# Altium integrated library IntegratedCircuit - Copy.IntLib: 190 symbols (part 1 of 3)
Pins are listed as number, name and electrical type; pins without a type are passive.

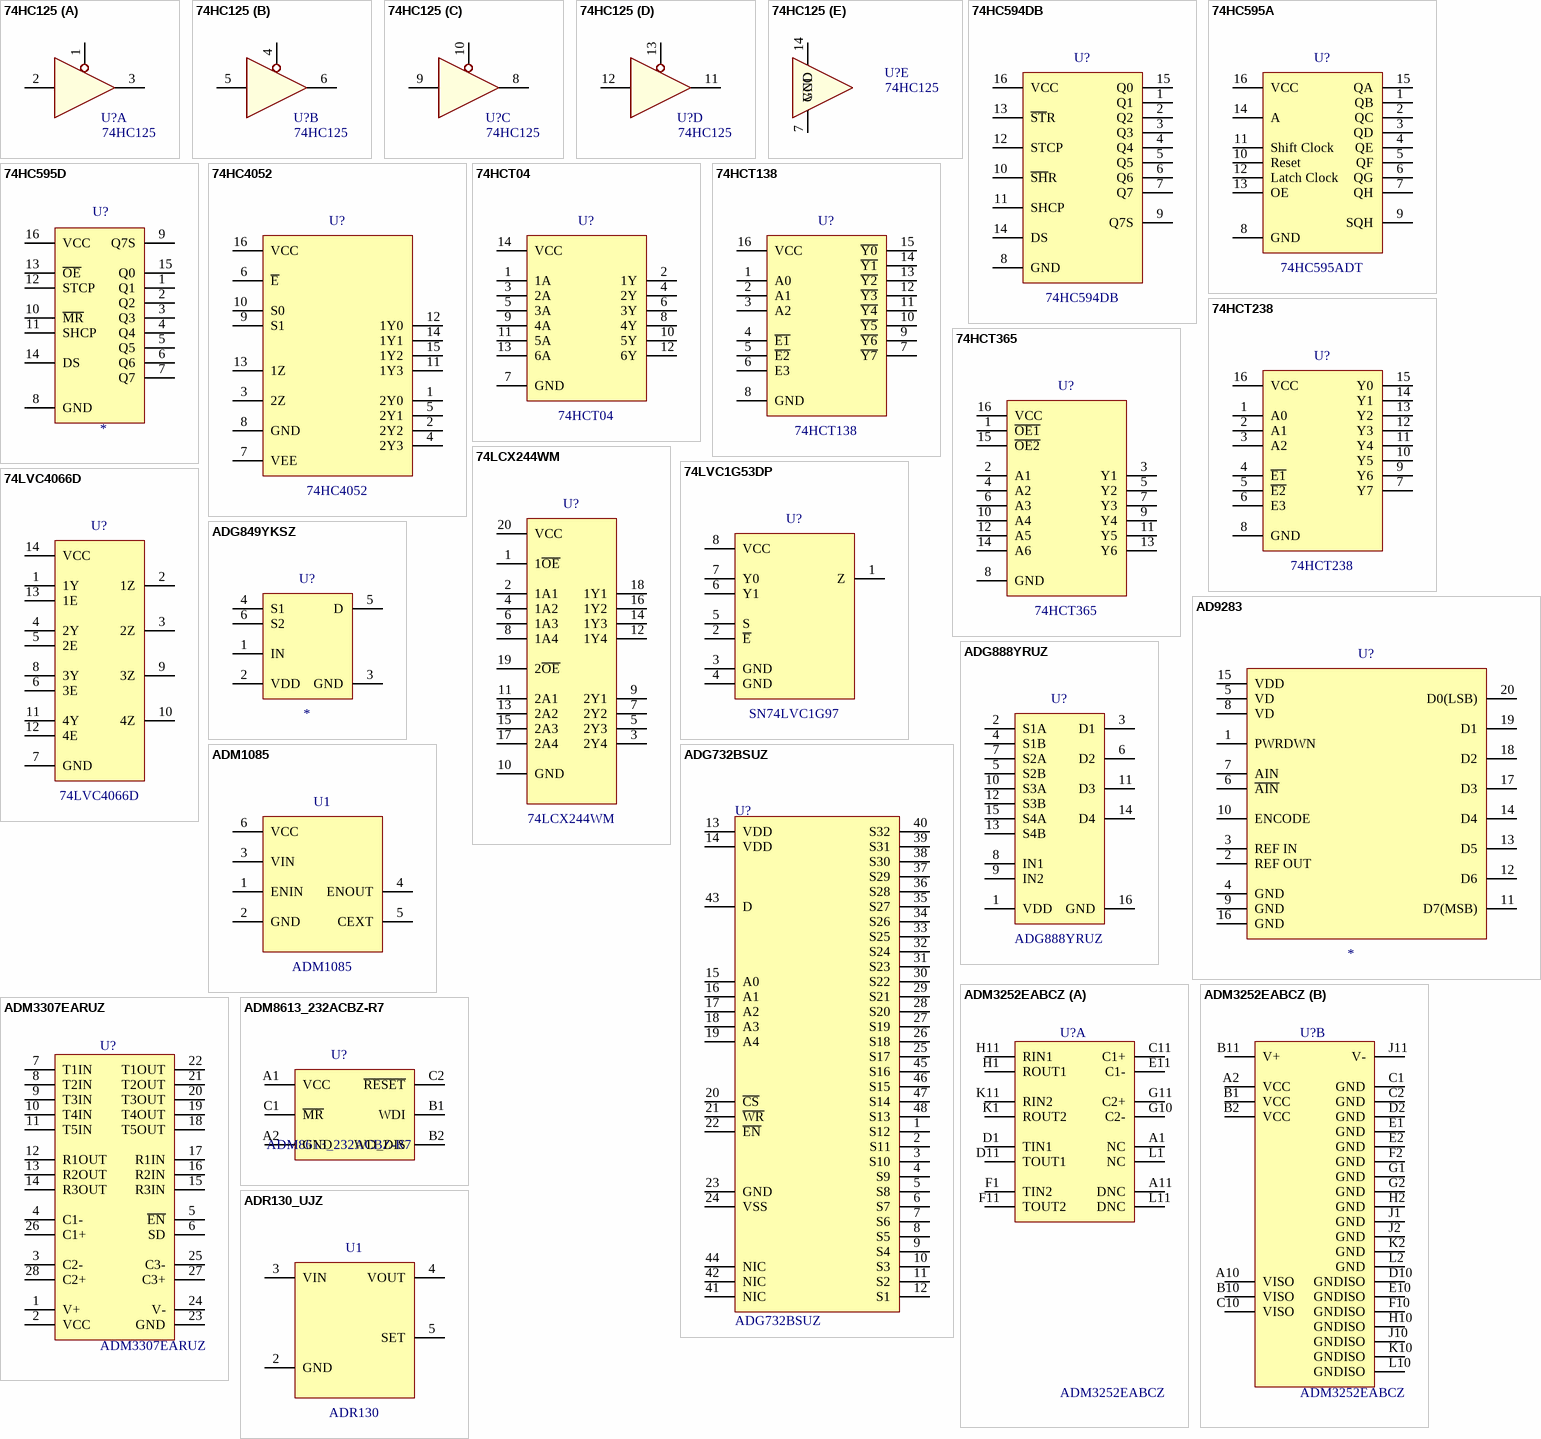
[diagram p0: symbols 74HC125 to ADR130_UJZ]

## 74HC125
designator U?
Quadruple Bus Buffer Gates With 3-State Outputs; Value: 74HC125
footprint SO14 P1.27 C4.0X8.8 H1.75 (SOIC, 14-Leads, Body 4.0X8.8mm, Pitch 1.27mm, IPC Medium Density)
part A pins: 1 ~{OE}1, 2 A1, 3 Y1
part B pins: 4 ~{OE}2, 5 A2, 6 Y2
part C pins: 8 Y3, 9 A3, 10 ~{OE}3
part D pins: 11 Y4, 12 A4, 13 ~{OE}3
part E pins: 7 GND, 14 VCC

## 74HC594DB
designator U?
8-bit shift register with output register; Value: 74HC594DB
footprint SSOP16 P0.65 C5.4x6.4 H1.8 (SSOP, 16-Leads, Body 5.4x6.4mm, Pitch 0.65mm, IPC Medium Density)
pins: 1 Q1, 2 Q2, 3 Q3, 4 Q4, 5 Q5, 6 Q6, 7 Q7, 8 GND, 9 Q7S, 10 ~{SH}R, 11 SHCP, 12 STCP, 13 ~{ST}R, 14 DS, 15 Q0, 16 VCC

## 74HC595A
designator U?, comment 74HC595ADT
8-Bit Serial-Input/Serial or / Parallel-Output Shift / Register; Value: 74HC595ADT
footprint TSSOP16 P0.65 C5.0x4.5 H1.1 (TSSOP-16 NXP)
pins: 1 QB, 2 QC, 3 QD, 4 QE, 5 QF, 6 QG, 7 QH, 8 GND, 9 SQH, 10 Reset, 11 Shift Clock, 12 Latch Clock, 13 OE, 14 A, 15 QA, 16 VCC

## 74HC595D
designator U?
8-bit shift register with output latches; Value: 74HC595D
footprint SO16 P1.27 C4.0x10.2 H1.75 (SOIC, 16-Leads, Body 4.0x10.20mm, Pitch 1.27mm, IPC Medium Density)
pins: 1 Q1 "parallel data output 1", 2 Q2 "parallel data output 2", 3 Q3 "parallel data output 3", 4 Q4 "parallel data output 4", 5 Q5 "parallel data output 5", 6 Q6 "parallel data output 6", 7 Q7 "parallel data output 7", 8 GND "ground (0 V)", 9 Q7S "serial data output", 10 ~{MR} "master reset (active LOW)", 11 SHCP "shift register clock input", 12 STCP "storage register clock input", 13 ~{OE} "output enable input (active LOW)", 14 DS "serial data input", 15 Q0 "parallel data output 0", 16 VCC "supply voltage"

## 74HC4052
designator U?
Dual 4 Channel analogue multiplexer/demultiplexer; Value: 74HC4052
footprint SO16 P1.27 C4.0x10.2 H1.75 (SOIC, 16-Leads, Body 4.0x10.20mm, Pitch 1.27mm, IPC Medium Density)
pins: 1 2Y0, 2 2Y2, 3 2Z, 4 2Y3, 5 2Y1, 6 ~{E}, 7 VEE, 8 GND, 9 S1, 10 S0, 11 1Y3, 12 1Y0, 13 1Z, 14 1Y1, 15 1Y2, 16 VCC

## 74HCT04
designator U?
Hex inverters; Value: 74HCT04
footprint SO14 P1.27 C4.0X8.8 H1.75 (SOIC, 14-Leads, Body 4.0X8.8mm, Pitch 1.27mm, IPC Medium Density)
pins: 1 1A, 2 1Y, 3 2A, 4 2Y, 5 3A, 6 3Y, 7 GND, 8 4Y, 9 4A, 10 5Y, 11 5A, 12 6Y, 13 6A, 14 VCC

## 74HCT138
designator U?
3-to-8 line decoder/demultiplexer; Value: 74HCT138
footprint SO16 P1.27 C4.0x10.2 H1.75 (SOIC, 16-Leads, Body 4.0x10.20mm, Pitch 1.27mm, IPC Medium Density)
pins: 1 A0, 2 A1, 3 A2, 4 ~{E1}, 5 ~{E2}, 6 E3, 7 ~{Y7}, 8 GND, 9 ~{Y6}, 10 ~{Y5}, 11 ~{Y4}, 12 ~{Y3}, 13 ~{Y2}, 14 ~{Y1}, 15 ~{Y0}, 16 VCC

## 74HCT238
designator U?
3-to-8 line decoder/demultiplexer; Value: 74HCT238
footprint SO16 P1.27 C4.0x10.2 H1.75 (SOIC, 16-Leads, Body 4.0x10.20mm, Pitch 1.27mm, IPC Medium Density)
pins: 1 A0, 2 A1, 3 A2, 4 ~{E1}, 5 ~{E2}, 6 E3, 7 Y7, 8 GND, 9 Y6, 10 Y5, 11 Y4, 12 Y3, 13 Y2, 14 Y1, 15 Y0, 16 VCC

## 74HCT365
designator U?
Hex Buffers and Line Drivers with 3-State Outputs; Value: 74HCT365
footprint SO16 P1.27 C4.0x10.2 H1.75 (SOIC, 16-Leads, Body 4.0x10.20mm, Pitch 1.27mm, IPC Medium Density)
pins: 1 ~{OE1}, 2 A1, 3 Y1, 4 A2, 5 Y2, 6 A3, 7 Y3, 8 GND, 9 Y4, 10 A4, 11 Y5, 12 A5, 13 Y6, 14 A6, 15 ~{OE2}, 16 VCC

## 74LCX244WM
designator U?
3.3-V ABT OCTAL BUFFER/DRIVER  WITH 3-STATE OUTPUTS; Manufacturer: ON Semiconductor / Fairchild; Value: 74LCX244WM; Mouser No.: 512-74LCX244WM
footprint SO20 P1.27 C7.5X12.8 H2.7 (SOIC, 20-Leads, Body 12.80x7.50mm, Pitch 1.27mm, IPC Medium Density)
pins: 1 1~{OE}, 2 1A1, 3 2Y4, 4 1A2, 5 2Y3, 6 1A3, 7 2Y2, 8 1A4, 9 2Y1, 10 GND, 11 2A1, 12 1Y4, 13 2A2, 14 1Y3, 15 2A3, 16 1Y2, 17 2A4, 18 1Y1, 19 2~{OE}, 20 VCC

## 74LVC1G53DP
designator U?, comment SN74LVC1G97
2-channel analog multiplexer/demultiplexer; Value: SN74LVC1G97
footprint TSSOP8 P0.65 C3.1x3.1 H1.1 (TSSOP, 8-Leads, Body 3.1x3.1mm, Pitch 0.65mm, IPC Medium Density)
pins: 1 Z, 2 ~{E}, 3 GND, 4 GND, 5 S, 6 Y1, 7 Y0, 8 VCC

## 74LVC4066D
designator U?
Quad single pole, single-throw analog switch functions.; Value: 74LVC4066D
footprint SO14 P1.27 C4.0X8.8 H1.75 (SOIC, 14-Leads, Body 4.0X8.8mm, Pitch 1.27mm, IPC Medium Density)
pins: 1 1Y, 2 1Z, 3 2Z, 4 2Y, 5 2E, 6 3E, 7 GND, 8 3Y, 9 3Z, 10 4Z, 11 4Y, 12 4E, 13 1E, 14 VCC

## AD9283
designator U?
8-Bit, 50 MSPS/80 MSPS/100 MSPS 3 V A/D Converter; Value: *
footprint SSOP20 P0.65 C5.4X7.5 H2.0 (SSOP, 20-Leads, Body 5.40X7.50mm, Pitch 0.65mm, IPC Medium Density)
pins: 1 PWRDWN, 2 REF OUT, 3 REF IN, 4 GND, 5 VD, 6 ~{AIN}, 7 AIN, 8 VD, 9 GND, 10 ENCODE, 11 D7(MSB), 12 D6, 13 D5, 14 D4, 15 VDD, 16 GND, 17 D3, 18 D2, 19 D1, 20 D0(LSB)

## ADG732BSUZ
designator U?
Multiplex-Schalter IC 1.8V to 5.5V, 32:1 MUX with SPI I/F I.C.; Manufacturer: Analog Devices; Value: ADG732BSUZ; Mouser No: 584-ADG732BSUZ
footprint LQFP48 P0.5 C7.0X7.0 H1.6 (TSQFP, 48-Leads, Body 7.00x7.00mm, Pitch 0.50mm, IPC Medium Density)
pins: 1 S12, 2 S11, 3 S10, 4 S9, 5 S8, 6 S7, 7 S6, 8 S5, 9 S4, 10 S3, 11 S2, 12 S1, 13 VDD, 14 VDD, 15 A0, 16 A1, 17 A2, 18 A3, 19 A4, 20 ~{CS}, 21 ~{WR}, 22 ~{EN}, 23 GND, 24 VSS, 25 S17, 26 S18, 27 S19, 28 S20, 29 S21, 30 S22, 31 S23, 32 S24, 33 S25, 34 S26, 35 S27, 36 S28, 37 S29, 38 S30, 39 S31, 40 S32, 41 NIC, 42 NIC, 43 D, 44 NIC, 45 S16, 46 S15, 47 S14, 48 S13

## ADG849YKSZ
designator U?
monolithic CMOS SPDT (single pole, double throw) switch.; Value: *
footprint SC70-6 P0.65 C1.4x2.2 H1.0 (SC70, 6-Leads, Body 2.2x1.40mm, Pitch 0.65mm, IPC Medium Density)
pins: 1 IN "Logic Control Input.", 2 VDD "Most Positive Power Supply Potential.", 3 GND "Ground (0 V) Reference.", 4 S1 "Source Terminal. May be an input or output.", 5 D "Drain Terminal. May be an input or output.", 6 S2 "Source Terminal. May be an input or output."

## ADG888YRUZ
designator U?
low voltage, dual DPDT (double-pole, double-throw) CMOS.; Value: ADG888YRUZ
footprint TSSOP16 P0.65 C5.0x4.5 H1.1 (TSSOP-16 NXP)
pins: 1 VDD "Most Positive Power Supply Potential.", 2 S1A "Source Terminal. Can be an input or output.", 3 D1 "Drain Terminal. Can be an input or output.", 4 S1B "Source Terminal. Can be an input or output.", 5 S2B "Source Terminal. Can be an input or output.", 6 D2 "Drain Terminal. Can be an input or output.", 7 S2A "Source Terminal. Can be an input or output.", 8 IN1 "Logic Control Input.", 9 IN2 "Logic Control Input.", 10 S3A "Source Terminal. Can be an input or output.", 11 D3 "Drain Terminal. Can be an input or output.", 12 S3B "Source Terminal. Can be an input or output.", 13 S4B "Source Terminal. Can be an input or output.", 14 D4 "Drain Terminal. Can be an input or output.", 15 S4A "Source Terminal. Can be an input or output.", 16 GND "Ground (0 V) Reference."

## ADM1085
designator U1
Simple Sequencer; Value: ADM1085
footprint SC70-6 P0.65 C1.4x2.2 H1.0 (SC70, 6-Leads, Body 2.2x1.40mm, Pitch 0.65mm, IPC Medium Density)
pins: 1 ENIN, 2 GND, 3 VIN, 4 ENOUT, 5 CEXT, 6 VCC

## ADM3252EABCZ
designator U?
Isolated, Dual Channel, RS-232 Line  Driver/Receiver; Value: ADM3252EABCZ
footprint BGA44 P1.0 C12x12 H1.55 (BGA, 44-Leads, Body 12.00x12.00mm, Pitch 1.00mm)
part A pins: A1 NC "No Connect.", A11 DNC "Do Not Connect.", C11 C1+ "Positive and Negative Connections for Charge Pump Capacitors.", D1 TIN1 "Transmitter (Driver) Input 1.", D11 TOUT1 "Transmitter (Driver) Output 1.", E11 C1- "Positive and Negative Connections for Charge Pump Capacitors.", F1 TIN2 "Transmitter (Driver) Input 2.", F11 TOUT2 "Transmitter (Driver) Output 2.", G10 C2- "Positive and Negative Connections for Charge Pump Capacitors.", G11 C2+ "Positive and Negative Connections for Charge Pump Capacitors.", H1 ROUT1 "Receiver Output 1.", H11 RIN1 "Receiver Input 1.", K1 ROUT2 "Receiver Output 2.", K11 RIN2 "Receiver Input 2.", L1 NC "No Connect.", L11 DNC "Do Not Connect."
part B pins: A2 VCC "Power Supply Input.", A10 VISO "Supply Voltage for Isolator Secondary Side.", B1 VCC "Power Supply Input.", B2 VCC "Power Supply Input.", B10 VISO "Supply Voltage for Isolator Secondary Side.", B11 V+ "Internally Generated Positive Supply.", C1 GND "Ground Reference for Logic Side", C2 GND "Ground Reference for Logic Side", C10 VISO "Supply Voltage for Isolator Secondary Side.", D2 GND "Ground Reference for Logic Side", D10 GNDISO "Ground Reference for Isolated RS-232 Side.", E1 GND "Ground Reference for Logic Side", E2 GND "Ground Reference for Logic Side", E10 GNDISO "Ground Reference for Isolated RS-232 Side.", F2 GND "Ground Reference for Logic Side", F10 GNDISO "Ground Reference for Isolated RS-232 Side.", G1 GND "Ground Reference for Logic Side", G2 GND "Ground Reference for Logic Side", H2 GND "Ground Reference for Logic Side", H10 GNDISO "Ground Reference for Isolated RS-232 Side.", J1 GND "Ground Reference for Logic Side", J2 GND "Ground Reference for Logic Side", J10 GNDISO "Ground Reference for Isolated RS-232 Side.", J11 V- "Internally Generated Negative Supply.", K2 GND "Ground Reference for Logic Side", K10 GNDISO "Ground Reference for Isolated RS-232 Side.", L2 GND "Ground Reference for Logic Side", L10 GNDISO "Ground Reference for Isolated RS-232 Side."

## ADM3307EARUZ
designator U?
15 kV ESD Protected, 2.7 V to 3.6 V Serial  Port Transceivers with Green Idle; Value: ADM3307EARUZ
footprint TSSOP28 P0.65 C4.4x9.7 H1.2 (SOP, 28-Leads, Body 9.7x4.4mm, Pitch 0.65mm, IPC Medium Density)
pins: 1 V+ "Internally Generated Positive Supply, 7.25 V. Capacitor C4 is connected between VCC and V+.", 2 VCC "Power Supply Input 2.7 V to 3.6 V.", 3 C2- "External Capacitor 2 is connected between these pins. A 0.1 uF capacitor is recommended, but larger capacitors up to 1 uF can be used.", 4 C1- "External Capacitor 1 is connected between these pins. A 0.1 uF capacitor is recommended, but larger capacitors up to 1 uF can be used.", 5 ~{EN} "Receiver Enable. A high level three-states all the receiver outputs.", 6 SD "Shutdown Control. A high level disables the charge pump and reduces the quiescent current to less than 1 uA. All transmitters and most receivers are disabled. One receiver remains active in shutdown For ADM3307E, ROUT3 is active in shutdown.", 7 T1IN "Transmitter (Driver) Input. These inputs accept TTL/CMOS levels. An internal 400 kOhm pull-up resistor to VCC is connected on each input.", 8 T2IN "Transmitter (Driver) Input. These inputs accept TTL/CMOS levels. An internal 400 kOhm pull-up resistor to VCC is connected on each input.", 9 T3IN "Transmitter (Driver) Input. These inputs accept TTL/CMOS levels. An internal 400 kOhm pull-up resistor to VCC is connected on each input.", 10 T4IN "Transmitter (Driver) Input. These inputs accept TTL/CMOS levels. An internal 400 kOhm pull-up resistor to VCC is connected on each input.", 11 T5IN "Transmitter (Driver) Input. These inputs accept TTL/CMOS levels. An internal 400 kOhm pull-up resistor to VCC is connected on each input.", 12 R1OUT "Receiver Output. These are TTL/CMOS levels.", 13 R2OUT "Receiver Output. These are TTL/CMOS levels.", 14 R3OUT "Receiver Output. These are TTL/CMOS levels.", 15 R3IN "Receiver Input. These inputs accept RS-232 signal levels. An internal 5 kOhm pull-down resistor to GND is connected on each of these inputs.", 16 R2IN "Receiver Input. These inputs accept RS-232 signal levels. An internal 5 kOhm pull-down resistor to GND is connected on each of these inputs.", 17 R1IN "Receiver Input. These inputs accept RS-232 signal levels. An internal 5 kOhm pull-down resistor to GND is connected on each of these inputs.", 18 T5OUT "Transmitter (Driver) Output. Typically +/-5.5 V.", 19 T4OUT "Transmitter (Driver) Output. Typically +/-5.5 V.", 20 T3OUT "Transmitter (Driver) Output. Typically +/-5.5 V.", 21 T2OUT "Transmitter (Driver) Output. Typically +/-5.5 V.", 22 T1OUT "Transmitter (Driver) Output. Typically +/-5.5 V.", 23 GND "Ground Pin. Must be connected to 0 V.", 24 V- "Internally Generated Positive Supply, -7.25 V. Capacitor C5 is connected between VCC and V-.", 25 C3- "External Capacitor 3 is connected between these pins. A 0.1 uF capacitor is recommended, but larger capacitors up to 1 uF can be used.", 26 C1+ "External Capacitor 1 is connected between these pins. A 0.1 uF capacitor is recommended, but larger capacitors up to 1 uF can be used.", 27 C3+ "External Capacitor 3 is connected between these pins. A 0.1 uF capacitor is recommended, but larger capacitors up to 1 uF can be used.", 28 C2+ "External Capacitor 2 is connected between these pins. A 0.1 uF capacitor is recommended, but larger capacitors up to 1 uF can be used."

## ADM8613_232ACBZ-R7
designator U?
Ultralow Power Supervisory ICs with Watchdog Timer and Manual Reset; Value: ADM8613_232ACBZ-R7
footprint WLCSP6 P0.5 C1.00x1.50  H0.6 (BGA, 6-Balls, Body 1.0x1.5mm, Pitch 0.5mm)
pins: A1 VCC, A2 GND, B1 WDI, B2 WD_DIS, C1 ~{MR}, C2 ~{RESET}

## ADR130_UJZ
designator U1, comment ADR130
Precision Series Sub-Band Gap  Voltage Reference; Value: ADR130
footprint SOT23-6 P0.95 C1.5x3.0 H1.3 (SOT23, 6-Leads, Body 1.6x3.0mm, Pitch 0.95mm, IPC Medium Density)
pins: 2 GND, 3 VIN, 4 VOUT, 5 SET

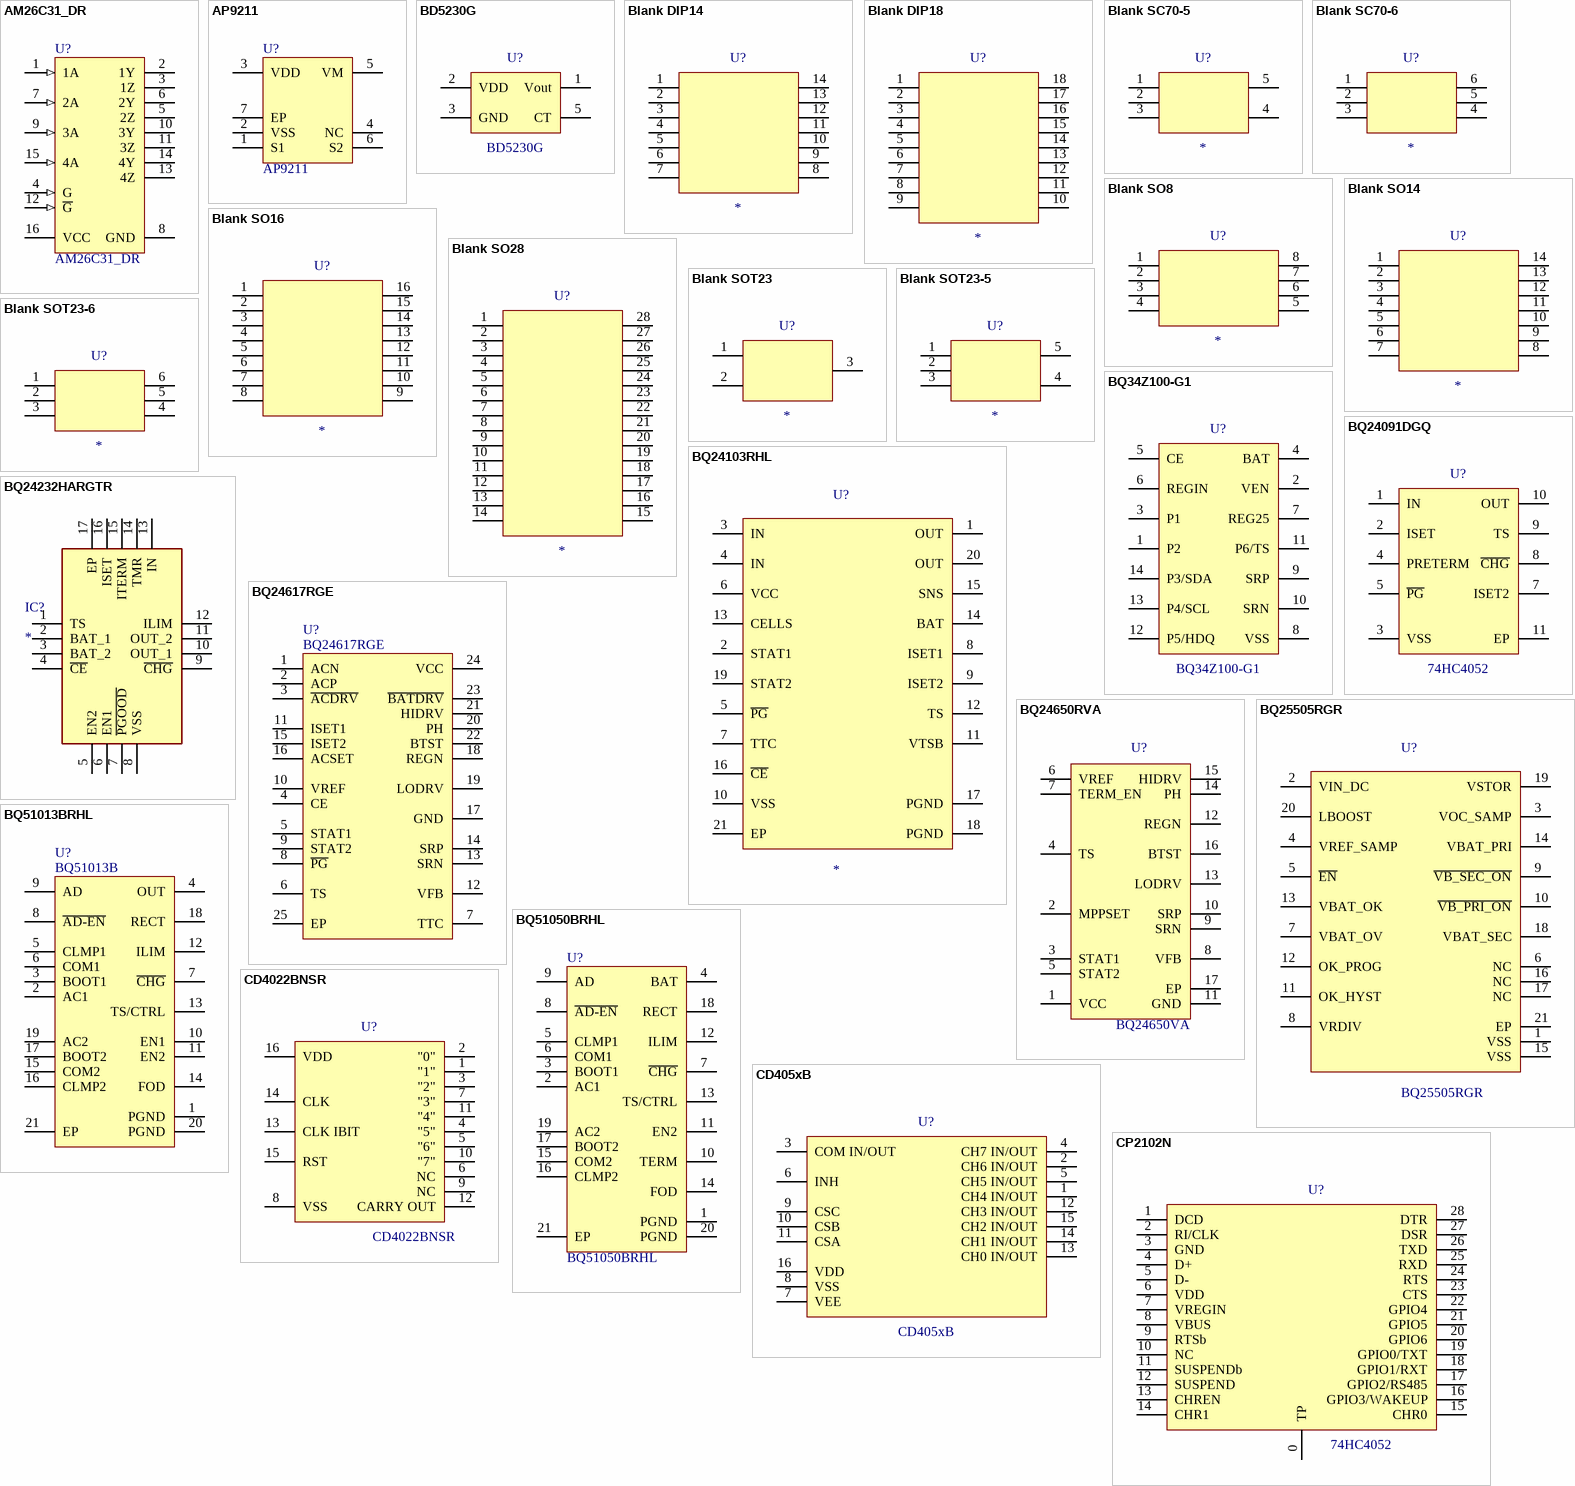
[diagram p1: symbols AM26C31_DR to CP2102N]

## AM26C31_DR
designator U?
Quadruple Differential Line Driver; Value: AM26C31_DR
footprint SO16 P1.27 C4.0x10.2 H1.75 (SOIC, 16-Leads, Body 4.0x10.20mm, Pitch 1.27mm, IPC Medium Density)
pins: 1 1A (in), 2 1Y (hiz), 3 1Z (hiz), 4 G (in), 5 2Z (hiz), 6 2Y (hiz), 7 2A (in), 8 GND (power), 9 3A (in), 10 3Y (hiz), 11 3Z (hiz), 12 ~{G} (in), 13 4Z (hiz), 14 4Y (hiz), 15 4A (in), 16 VCC (power)

## AP9211
designator U?
SINGLE CHIP SOLUTION FOR 1-CELL Li+ BATTERY PACK; Value: AP9211
footprint DFN6 P0.6 T1.8X1.8 C3.0X2.0 H0.6 (DFN6 P0.6 T1.8X1.8 C3.0X2.0 H0.6, Diodes INC U-DFN2030-6)
pins: 1 S1, 2 VSS, 3 VDD, 4 NC, 5 VM, 6 S2, 7 EP

## BD5230G
designator U?
Free Delay Time Setting CMOS Voltage Detector IC; Value: BD5230G
footprint SOT23-5 P0.95 C1.6x3.0 H1.3 (SOT23, 5-Leads, Body 1.6x3.0mm, Pitch 0.95mm, IPC Medium Density)
pins: 1 Vout, 2 VDD, 3 GND, 5 CT

## Blank DIP14
designator U?
DIP14 P2.54 W7.62 H5.0; Value: *
footprint DIP14 P2.54 W7.62 H5.0 (14-Pin Dual in Line Integrated Circuit 2.54 Pitch, 7.62 Width, Case 20x6mm)
pins: 1, 2, 3, 4, 5, 6, 7, 8, 9, 10, 11, 12, 13, 14

## Blank DIP18
designator U?
DIP18 P2.54 W7.62 H5.0; Value: *
footprint DIP18 P2.54 W7.62 H5.0 (14-Pin Dual in Line Integrated Circuit 2.54 Pitch, 7.62 Width, Case 22.4x6mm)
pins: 1, 2, 3, 4, 5, 6, 7, 8, 9, 10, 11, 12, 13, 14, 15, 16, 17, 18

## Blank SC70-5
designator U?
SC70-5 P0.65 C1.4x2.2 H1.0; Value: *
footprint SC70-5 P0.65 C1.4x2.2 H1.0 (SC70, 5-Leads, Body 2.2x1.40mm, Pitch 0.65mm, IPC Medium Density)
pins: 1, 2, 3, 4, 5

## Blank SC70-6
designator U?
SC70-6 P0.65 C1.4x2.2 H1.0; Value: *
footprint SC70-6 P0.65 C1.4x2.2 H1.0 (SC70, 6-Leads, Body 2.2x1.40mm, Pitch 0.65mm, IPC Medium Density)
pins: 1, 2, 3, 4, 5, 6

## Blank SO8
designator U?
SO8 P1.27 C4.0X5.0 H1.75; Value: *
footprint SO8 P1.27 C4.0X5.0 H1.75 (8-Pin Small Outline Integrated Circuit 1.27 mm Pitch, IPC Medium Density)
pins: 1, 2, 3, 4, 5, 6, 7, 8

## Blank SO14
designator U?
SO14 P1.27 C4.0X8.8 H1.75; Value: *
footprint SO14 P1.27 C4.0X8.8 H1.75 (SOIC, 14-Leads, Body 4.0X8.8mm, Pitch 1.27mm, IPC Medium Density)
pins: 1, 2, 3, 4, 5, 6, 7, 8, 9, 10, 11, 12, 13, 14

## Blank SO16
designator U?
SO16 P1.27 C4.0x10.2 H1.75; Value: *
footprint SO16 P1.27 C4.0x10.2 H1.75 (SOIC, 16-Leads, Body 4.0x10.20mm, Pitch 1.27mm, IPC Medium Density)
pins: 1, 2, 3, 4, 5, 6, 7, 8, 9, 10, 11, 12, 13, 14, 15, 16

## Blank SO28
designator U?
SO28 P1.27 C7.5X17.9 H2.7; Value: *
footprint SO28 P1.27 C7.5X17.9 H2.7 (SOIC, 28-Leads, Body 17.9x7.50mm, Pitch 1.27mm, IPC Medium Density)
pins: 1, 2, 3, 4, 5, 6, 7, 8, 9, 10, 11, 12, 13, 14, 15, 16, 17, 18, 19, 20, 21, 22, 23, 24, 25, 26, 27, 28

## Blank SOT23
designator U?
SOT23 P0.95 C1.6x3.0 H1.3; Value: *
footprint SOT23 P0.95 C1.6x3.0 H1.3 (SOT23, 3-Leads, Body 1.6x3.0mm, Pitch 0.95mm, IPC Medium Density)
pins: 1, 2, 3

## Blank SOT23-5
designator U?
SOT23-5 P0.95 C1.6x3.0 H1.3; Value: *
footprint SOT23-5 P0.95 C1.6x3.0 H1.3 (SOT23, 5-Leads, Body 1.6x3.0mm, Pitch 0.95mm, IPC Medium Density)
pins: 1, 2, 3, 4, 5

## Blank SOT23-6
designator U?
SOT23-6 P0.95 C1.5x3.0 H1.3; Value: *
footprint SOT23-6 P0.95 C1.5x3.0 H1.3 (SOT23, 6-Leads, Body 1.6x3.0mm, Pitch 0.95mm, IPC Medium Density)
pins: 1, 2, 3, 4, 5, 6

## BQ34Z100-G1
designator U?
Wide Range Fuel Gauge with Impedance Track™ Technology; Value: BQ34Z100-G1
footprint TSSOP14 P0.65 C4.4x5.0 H1.1 (TSSOP, 14-Leads, Body 5x4.4mm, Pitch 0.65mm, IPC Medium Density)
pins: 1 P2, 2 VEN, 3 P1, 4 BAT, 5 CE, 6 REGIN, 7 REG25, 8 VSS, 9 SRP, 10 SRN, 11 P6/TS, 12 P5/HDQ, 13 P4/SCL, 14 P3/SDA

## BQ24091DGQ
designator U?, comment 74HC4052
Single-Input, Single Cell Li-Ion and Li-Pol Battery Charger; Value: 74HC4052
footprint MSOP10 P0.5 C3.0X3.0 T1.9X1.6 H1.1 (MSOP, 10-Leads, Body 3.0x3.0mm, Thermal 1.9x1.6, Pitch 0.50mm, IPC Medium Density)
pins: 1 IN, 2 ISET, 3 VSS, 4 PRETERM, 5 ~{PG}, 7 ISET2, 8 ~{CHG}, 9 TS, 10 OUT, 11 EP

## BQ24103RHL
designator U?
Synchronous Switched-Mode, Li-Ion and Li-Polymer Charge-Management; Value: *
footprint QFN24 P0.5 T2.05X3.05 C3.5X4.5 H1.0 (QFN, 24-Leads, Body 3.5x4.5mm, Pitch 0.5mm, Thermal Pad 2.05x3.05mm, TI Recommended)
pins: 1 OUT, 2 STAT1, 3 IN, 4 IN, 5 ~{PG}, 6 VCC, 7 TTC, 8 ISET1, 9 ISET2, 10 VSS, 11 VTSB, 12 TS, 13 CELLS, 14 BAT, 15 SNS, 16 ~{CE}, 17 PGND, 18 PGND, 19 STAT2, 20 OUT, 21 EP

## BQ24232HARGTR
designator IC?
Integrated Circuit; Manufacturer_Name: Texas Instruments; Manufacturer_Part_Number: BQ24232HARGTR; Description: USB Friendly 0.5A Li+ Charger with Power-Path; Datasheet Link: http://www.ti.com/lit/gpn/bq24232ha; Height: 1mm; Arrow Part Number: BQ24232HARGTR; Arrow Price/Stock: https://www.arrow.com/en/products/bq24232hargtr/texas-instruments; Mouser Part Number: 595-BQ24232HARGTR; Mouser Price/Stock: https://www.mouser.co.uk/ProductDetail/Texas-Instruments/BQ24232HARGTR?qs=zEmsApcVOkUhMNqBs2s9Ww%3D%3D
footprint QFN50P300X300X100-17N-D
footprint QFN16 P0.5 T1.5x1.5 C3.0x3.0 H1.0
pins: 1 TS, 2 BAT_1, 3 BAT_2, 4 ~{CE}, 5 EN2, 6 EN1, 7 ~{PGOOD}, 8 VSS, 9 ~{CHG}, 10 OUT_1, 11 OUT_2, 12 ILIM, 13 IN, 14 TMR, 15 ITERM, 16 ISET, 17 EP

## BQ24617RGE
designator U?
Li-Ion or Li-Polymer Battery Charger; Value: BQ24617RGE
footprint QFN24 P0.5 T2.45X2.45 C4.0X4.0 H1.0 (QFN, 24-Leads, Body 4x4mm, Pitch 0.5mm, Thermal Pad 2.45x2.45mm, TI Recommended)
pins: 1 ACN "Adapter current-sense resistor, negative input. A 0.1-uF ceramic capacitor is placed from ACN to ACP to provide differential-mode filtering. An optional 0.1-uF ceramic capacitor is placed from the ACN pin to GND for (See Datasheet)", 2 ACP "Adapter current-sense resistor, positive input. A 0.1-uF ceramic capacitor is placed from ACN to ACP to provide differential-mode filtering. A 0.1-uF ceramic capacitor is placed from the ACP pin to GND for common-mode (See Datasheet)", 3 ~{ACDRV} "AC adapter to system MOSFET driver output. Connect through a 1-kohm resistor to the gate of the ACFET P-channel power MOSFET and the reverse conduction blocking P-channel power MOSFET. The internal gate drive is (See Datasheet)", 4 CE "Charge-enable active-HIGH logic input. HI enables charge. LO disables charge. It has an internal 1-Mohm  pulldown resistor.", 5 STAT1 "Open-drain charge-status pin to indicate various charger operations (See Table 3)", 6 TS "Temperature qualification voltage input for battery-pack negative-temperature-coefficient thermistor. Program the hot and cold temperature window with a resistor divider from VREF to TS to GND. (See Figure 19)", 7 TTC "SafetyTimer and termination control. Connect a capacitor from this node to GND to set the timer. When this input is LOW, the timer and termination are disabled. When this input is HIGH, the timer is disabled but termination (See Datasheet)", 8 ~{PG} "Open-drain power-good status output. Active-LOW when IC has a valid VCC (not in UVLO or ACOV or SLEEP mode). Active-HIGH when IC has an invalid VCC. P\G\  can be used to drive an LED or communicate with a host processor", 9 STAT2 "Open-drain charge-status pin to indicate various charger operations (See Table 3)", 10 VREF "3.3-V regulated voltage output. Place a 1-uF ceramic capacitor from VREF to GND pin close to the IC. This voltage could be used for programming of voltage and current regulation and for programming the TS threshold.", 11 ISET1 "Fast-charge current-set input. The voltage on the ISET1 pin programs the fast-charge current-regulation set point.", 12 VFB "Output-voltage analog-feedback adjustment. Connect the output of a resistive voltage divider from the battery terminals to this node to adjust the output battery-regulation voltage.", 13 SRN "Charge-current sense resistor, negative input. A 0.1-uF ceramic capacitor is placed from SRN to SRP to provide differential-mode filtering. An optional 0.1-uF ceramic capacitor is placed from the SRN pin to GND for (See Datasheet)", 14 SRP "Charge-current sense resistor, positive input. A 0.1-uF ceramic capacitor is placed from SRN to SRP to provide differential-mode filtering. A 0.1-uF ceramic capacitor is placed from the SRP pin to GND for common-mode (See Datasheet)", 15 ISET2 "Pre-charge and termination current-set input. The voltage on the ISET2 pin programs the pre-charge current regulation set-point and termination-current trigger point.", 16 ACSET "Adapter-current set input. The voltage on the ACSET pin programs the input-current regulation set-point during dynamic power management (DPM).", 17 GND "Low-current sensitive analog/digital ground. On PCB layout, connect with thermal pad underneath the IC.", 18 REGN "PWM low-side driver positive 6-V supply output. Connect a 1-uF ceramic capacitor from REGN to the GND pin, close to the IC. Use for low-side driver and high-side driver bootstrap voltage by connecting a small-signal Schottky (See Datasheet)", 19 LODRV "PWM low-side driver output. Connect to the gate of the low-side power MOSFET with a short trace.", 20 PH "PWM high-side driver negative supply. Connect to the phase-switching node (junction of the low-side power MOSFET drain, high-side power MOSFET source, and output inductor).", 21 HIDRV "PWM high-side driver output. Connect to the gate of the high-side power MOSFET with a short trace.", 22 BTST "PWM high-side driver positive supply. Connect to the phase-switching node (junction of the low-side power MOSFET drain, high-side power MOSFET source, and output inductor). Connect the 0.1-uF bootstrap capacitor from PH to (See Datasheet)", 23 ~{BATDRV} "Battery-to-system MOSFET driver output. Gate drive for the battery-to-system load BAT PMOS power FET to isolate the system from the battery to prevent current flow from the system to the battery, while allowing a (See Datasheet)", 24 VCC "IC power positive supply. Connect through a 10-ohm to the common-source (diode-OR) point: source of high-side P-channel MOSFET and source of reverse-blocking power P-channel MOSFET. Place a 1-uF ceramic capacitor from VCC to (See Datasheet)", 25 EP "Exposed pad beneath the IC. Always solder the thermal pad to the board, and have vias on the thermal-pad plane star-connecting to GND and to the ground plane for a high-current power converter. It also serves as a thermal (See Datasheet)"

## BQ24650RVA
designator U?, comment BQ24650VA
Synchronous Switch-Mode Battery Charge Controller for Solar Power; Value: BQ24650VA
footprint QFN16 P0.5 T2.14x2.14 C3.6x3.6 H1.0 (QFN, 16-Leads, Body 3.5x3.5mm, Pitch 0.5mm, Thermal Pad 2.14x2.14mm, TI Recommended)
pins: 1 VCC "IC power positive supply. Place a 1-uF ceramic capacitor from VCC to GND and place it as close as possible to IC. Place a 10-ohm resistor from input side to VCC pin to filter the noise.", 2 MPPSET "Input voltage set point. Use a voltage divider from input source to GND to set voltage on MPPSET to 1.2V. To disable charge, pull MPPSET below 75mV.", 3 STAT1 "Open drain charge status output to indicate various charger operation. Connect to the cathode of LED with 10kohm to the pull-up rail. LOW or LED light up indicates charge in progress. Otherwise stays HI or LED stays off. (See Datasheet)", 4 TS "Temperature qualification voltage input. Connect to a negative temperature coefficient thermistor. Program the hot and cold temperature window with a resistor divider from VREF to TS to GND. A 103AT-2 thermister is (See Datasheet)", 5 STAT2 "Open drain charge status output to indicate various charger operation. Connect to the cathode of LED with 10kohm to the pull-up rail. LOW or LED light up indicates charge is complete. Otherwise, stays HI or LED stays off. (See Datasheet)", 6 VREF "3.3V reference voltage output. Place a 1-uF ceramic capacitor from VREF to GND pin close to the IC. This voltage could be used for programming voltage on TS and the pull-up rail of STAT1 and STAT2.", 7 TERM_EN "Charge termination enable. Pull TERM_EN to GND to disable charge termination. Pull TERM_EN to VREF to allow charge termination. TERM_EN must be terminated and cannot be left floating.", 8 VFB "Charge voltage analog feedback adjustment. Connect the output of a resistor divider powered from the battery terminals to this node to adjust the output battery voltage regulation.", 9 SRN "Charge current sense resistor, negative input. A 0.1-uF ceramic capacitor is placed from SRN to SRP to provide differential-mode filtering. An optional 0.1-uF ceramic capacitor is placed from SRN to GND for common-mode (See Datasheet)", 10 SRP "Charge current sense resistor, positive input. A 0.1-uF ceramic capacitor is placed from SRN to SRP to provide differential-mode filtering. A 0.1-uF ceramic capacitor is placed from SRP to GND for common-mode filtering.", 11 GND "Power ground. Ground connection for high-current power converter node. On PCB layout, connect directly to source of low-side power MOSFET, to ground connection of input and output capacitors of the charger. Only connect to (See Datasheet)", 12 REGN "PWM low-side driver positive 6V supply output. Connect a 1-uF ceramic capacitor from REGN to GND, close to the IC. Use to drive low-side driver and high-side driver bootstrap Schottky diode from REGN to BTST.", 13 LODRV "PWM low-side driver output. Connect to the gate of the low-side N-channel power MOSFET with a short trace.", 14 PH "Switching node, charge current output inductor connection. Connect the 0.1-uF bootstrap capacitor from PH to BTST.", 15 HIDRV "PWM high-side driver output. Connect to the gate of the high-side N-channel power MOSFET with a short trace.", 16 BTST "PWM high-side driver positive supply. Connect the 0.1-uF bootstrap capacitor from PH to BTST.", 17 EP "Exposed pad beneath the IC. The thermal pad must always be soldered to the board and have the vias on the thermal pad plane star-connecting to GND and ground plane for high-current power converter. It also serves as a (See Datasheet)"

## BQ25505RGR
designator U?
Ultra Low-Power Boost Charger With Battery Management; Value: BQ25505RGR
footprint QFN20 P0.5 T2.05x2.05 C3.50x3.50 H1.0 (QFN, 20-Leads, Body 3.5x3.5mm, Pitch 0.5mm, Thermal Pad 2.05x2.05mm, TI Recommended)
pins: 1 VSS "General ground connection for the device", 2 VIN_DC "DC voltage input from energy harvesters. Connect at least a 4.7-uF capacitor as close as possible between this pin and pin 1.", 3 VOC_SAMP "Sampling pin for MPPT network. Connect to VSTOR to sample at 80% of input soure open circuit voltage. Connect to GND for 50% or connect to the mid-point of external resistor divider between VIN_DC and GND.", 4 VREF_SAMP "Connect a 0.01-uF low-leakage capacitor from this pin to GND to store the voltage to which VIN_DC will be regulated. This voltage is provided by the MPPT sample circuit.", 5 ~{EN} "Active low digital programming input for enabling/disabling the IC. Connect to GND to enable the IC.", 6 NC "Connect to VSS via the IC's PowerPad.", 7 VBAT_OV "Connect to the mid-point of external resistor divider between VRDIV and GND for setting the VSTOR = VBAT_SEC overvoltage threshold.", 8 VRDIV "Connect high side of resistor divider networks to this biasing voltage.", 9 ~{VB_SEC_ON} "Active low push-pull driver for the secondary (rechargeable) energy storage PMOS FET. Leave floating if not used.", 10 ~{VB_PRI_ON} "Active low push-pull driver for the primary (nonrechargeable) energy storage PMOS FET. Leave floating if not used.", 11 OK_HYST "Connect to the mid-point of external resistor divider between VRDIV and GND for setting the VBAT_OK hysteresis threshold. If not used, connect this pin to GND.", 12 OK_PROG "Connect to the mid-point of external resistor divider between VRDIV and GND for setting the VBAT_OK threshold. If not used, connect this pin to GND.", 13 VBAT_OK "Digital output for battery good indicator. Internally referenced to the VSTOR voltage. Leave floating if not used.", 14 VBAT_PRI "Primary (nonrechargeable) energy storage element HiZ sense input. Leave floating if not used.", 15 VSS "Signal ground connection for the device.", 16 NC "Connect to ground using the IC's PowerPad.", 17 NC "Connect to ground using the IC's PowerPad.", 18 VBAT_SEC "Connect a secondary (rechargeable) storage element with at least 100 uF of equivalent capacitance to this pin.", 19 VSTOR "Connection for the output of the boost charger, which is typically connected to the system load. Connect at least a 4.7-uF capacitor in parallel with a 0.1-uF capacitor as close as possible to between this pin and pin 1 (See Datasheet)", 20 LBOOST "Inductor connection for the boost charger switching node. Connect a 22-uH inductor between this pin and pin 2 (VIN_DC).", 21 EP

## BQ51013BRHL
designator U?, comment BQ51013B
Highly Integrated Wireless Receiver Qi; Value: BQ51013B
footprint QFN20 P0.5 T3.05x2.05 C4.5x3.5 H1.0 (QFN, 20-Leads, Body 4.5x3.5mm, Pitch 0.5mm, Thermal Pad 3.05x2.05mm, TI Recommended)
pins: 1 PGND "Power ground", 2 AC1 "AC input from receiver coil antenna.", 3 BOOT1 "Bootstrap capacitors for driving the high-side FETs of the synchronous rectifier. Connect a 10 nF ceramic capacitor from BOOT1 to AC1 and from BOOT2 to AC2.", 4 OUT "Output pin, delivers power to the load", 5 CLMP1 "Open drain FETs which are utilized for a non-power dissipative over-voltage AC clamp protection. When the RECT voltage goes above 15 V, both switches will be turned on and the capacitors will act as a low impedance to (See Datasheet)", 6 COM1 "Open-drain output used to communicate with primary by varying reflected impedance. Connect through a capacitor to either AC1 or AC2 for capacitive load modulation (COM2 must be connected to the alternate AC1 or AC2 pin). For (See Datasheet)", 7 ~{CHG} "Open-drain output - active when output current is being delivered to the load (i.e. when the output of the supply is enabled).", 8 ~{AD-EN} "Push-pull driver for external PFET connecting AD and OUT. This node is pulled to the higher of OUT and AD when turning off the external FET. This voltage tracks approximately 4 V below AD when voltage is present at AD and (See Datasheet)", 9 AD "Connect this pin to the wired adapter input. When a voltage is applied to this pin wireless charging is disabled and AD_EN is driven low. Connect to GND through a 1 uF capacitor. If unused, capacitor is not required and (See Datasheet)", 10 EN1 "Inputs that allow user to enable/disable wireless and wired charging <EN1 EN2>: <00> wireless charging is enabled unless AD voltage > 3.6 V <01> Dynamic communication current limit disabled <10> A\D\-\E\N\ pulled low, (See Datasheet)", 11 EN2 "Inputs that allow user to enable/disable wireless and wired charging <EN1 EN2>: <00> wireless charging is enabled unless AD voltage > 3.6 V <01> Dynamic communication current limit disabled <10> A\D\-\E\N\ pulled low, (See Datasheet)", 12 ILIM "Programming pin for the over current limit. Connect external resistor to VSS. Size RILIM with the following equation: RILIM = 250 / IMAX where IMAX is the expected maximum output current of the wireless power supply. The (See Datasheet)", 13 TS/CTRL "Must be connected to ground via a resistor. If an NTC function is not desired connect to GND with a 10 kohm resistor. As a CTRL pin pull to ground to send end power transfer (EPT) fault to the transmitter or pull-up to an (See Datasheet)", 14 FOD "Input for the recieved power measurement. Connect to GND with a 188 ohm resistor. Please refer FOD section for more detail.", 15 COM2 "Open-drain output used to communicate with primary by varying reflected impedance. Connect through a capacitor to either AC1 or AC2 for capacitive load modulation (COM2 must be connected to the alternate AC1 or AC2 pin). For (See Datasheet)", 16 CLMP2 "Open drain FETs which are utilized for a non-power dissipative over-voltage AC clamp protection. When the RECT voltage goes above 15 V, both switches will be turned on and the capacitors will act as a low impedance to (See Datasheet)", 17 BOOT2 "Bootstrap capacitors for driving the high-side FETs of the synchronous rectifier. Connect a 10 nF ceramic capacitor from BOOT1 to AC1 and from BOOT2 to AC2.", 18 RECT "Filter capacitor for the internal synchronous rectifier. Connect a ceramic capacitor to PGND. Depending on the power levels, the value may be 4.7 uF to 22 uF.", 19 AC2 "AC input from receiver coil antenna.", 20 PGND "Power ground", 21 EP

## BQ51050BRHL
designator U?
High-Efficiency Qi v1.2-Compliant Wireless Power Receiver / and Battery Charger; Value: BQ51050BRHL
footprint QFN20 P0.5 T3.05x2.05 C4.5x3.5 H1.0 (QFN, 20-Leads, Body 4.5x3.5mm, Pitch 0.5mm, Thermal Pad 3.05x2.05mm, TI Recommended)
pins: 1 PGND "Power ground", 2 AC1 "Input power from receiver coil.", 3 BOOT1 "Bootstrap capacitors for driving the high-side FETs of the synchronous rectifier. Connect a 10nF ceramic capacitor from BOOT1 to AC1 and from BOOT2 to AC2.", 4 BAT "Output pin, delivers power to the battery while applying the internal charger profile.", 5 CLMP1 "Open drain FETs which are utilized for a non-power dissipative over-voltage AC clamp protection. When the RECT voltage goes above 15 V, both switches will be turned on and the capacitors will act as a low impedance to (See Datasheet)", 6 COM1 "Open-drain output used to communicate with primary by varying reflected impedance. Connect through a capacitor to either AC1 or AC2 for capacitive load modulation (COMM2 must be connected to the alternate AC1 or AC2 pin). (See Datasheet)", 7 ~{CHG} "Open-drain output - active when charging of the battery is active.", 8 ~{AD-EN} "Push-pull driver for external PFET when wired charging is active.", 9 AD "Connect this pin to the wired adapter input. When a voltage is applied to this pin wireless charging is disabled and AD_EN is driven low. Connect to GND through a 1uF capacitor. If unused, capacitor is not required and (See Datasheet)", 10 TERM "Input that allows the termination threshold to be programmable. KTERM = 240 ohm/%. Set the termination threshold by applying the following equation RTERM = %IILIM x KTERM where %IILIM is the desired percentage of fast charge (See Datasheet)", 11 EN2 "EN2=0 enables wired charging source if AD input volatge is above 3.6V, wireless charging is enabled if AD input volatge is < 3.6V, EN2=1 disables wired charging source; wireless power is always enabled if present.", 12 ILIM "Programming pin for the battery charge current. Connect external resistor to VSS. Size RILIM with the following equation: RILIM = 300 / IILIM where IILIM is the desired battery charge current.", 13 TS/CTRL "Must be connected to ground via a NTC resistor. If an NTC function is not desired, connect to GND with a 10 kohm resistor. As a CTRL pin pull to ground to send end power transfer (EPT) fault to the transmitter or pull-up to (See Datasheet)", 14 FOD "Input for the rectified power measurement. Connect to GND with a 188 ohm resistor.", 15 COM2 "Open-drain output used to communicate with primary by varying reflected impedance. Connect through a capacitor to either AC1 or AC2 for capacitive load modulation (COMM1 must be connected to the alternate AC1 or AC2 pin). (See Datasheet)", 16 CLMP2 "Open drain FETs which are utilized for a non-power dissipative over-voltage AC clamp protection. When the RECT voltage goes above 15 V, both switches will be turned on and the capacitors will act as a low impedance to (See Datasheet)", 17 BOOT2 "Bootstrap capacitors for driving the high-side FETs of the synchronous rectifier. Connect a 10nF ceramic capacitor from BOOT1 to AC1 and from BOOT2 to AC2.", 18 RECT "Filter capacitor for the internal synchronous rectifier. Connect a ceramic capacitor to PGND. Depending on the power levels, the value may be 4.7uF to 22uF.", 19 AC2 "Input power from receiver coil.", 20 PGND "Power ground", 21 EP

## CD405xB
designator U?
CD405xB CMOS Single 8-Channel Analog Multiplexer/Demultiplexer  With Logic-Level Conversion; Value: CD405xB
footprint SO16 P1.27 C4.0x10.2 H1.75 (SOIC, 16-Leads, Body 4.0x10.20mm, Pitch 1.27mm, IPC Medium Density)
pins: 1 CH4 IN/OUT, 2 CH6 IN/OUT, 3 COM IN/OUT, 4 CH7 IN/OUT, 5 CH5 IN/OUT, 6 INH, 7 VEE, 8 VSS, 9 CSC, 10 CSB, 11 CSA, 12 CH3 IN/OUT, 13 CH0 IN/OUT, 14 CH1 IN/OUT, 15 CH2 IN/OUT, 16 VDD

## CD4022BNSR
designator U?
Counter ICs Octal/Divider; Manufacturer: Texas Instrument; Value: CD4022BNSR; Mouser No.: 595-CD4022BNSR
footprint SO16 P1.27 C4.0x10.2 H1.75 (SOIC, 16-Leads, Body 4.0x10.20mm, Pitch 1.27mm, IPC Medium Density)
pins: 1 "1", 2 "0", 3 "2", 4 "5", 5 "6", 6 NC, 7 "3", 8 VSS, 9 NC, 10 "7", 11 "4", 12 CARRY OUT, 13 CLK IBIT, 14 CLK, 15 RST, 16 VDD

## CP2102N
designator U?, comment 74HC4052
USBXpress; Value: 74HC4052
footprint QFN28 P0.5 T3.4X3.4 C5.0X5.0 H0.8 (QFN, 28-Leads, Body 5.00x5.00mm, Pitch 0.50mm, Thermal Pad 3.40x3.40mm, IPC High Density)
footprint QFN28 HEVS P0.5 T3.4X3.4 C5.0X5.0 H0.8 (QFN, 28-Leads, Body 5.00x5.00mm, Pitch 0.50mm, Thermal Pad 3.40x3.40mm, IPC High Density)
pins: 0 TP, 1 DCD, 2 RI/CLK, 3 GND, 4 D+, 5 D-, 6 VDD, 7 VREGIN, 8 VBUS, 9 RTSb, 10 NC, 11 SUSPENDb, 12 SUSPEND, 13 CHREN, 14 CHR1, 15 CHR0, 16 GPIO3/WAKEUP, 17 GPIO2/RS485, 18 GPIO1/RXT, 19 GPIO0/TXT, 20 GPIO6, 21 GPIO5, 22 GPIO4, 23 CTS, 24 RTS, 25 RXD, 26 TXD, 27 DSR, 28 DTR

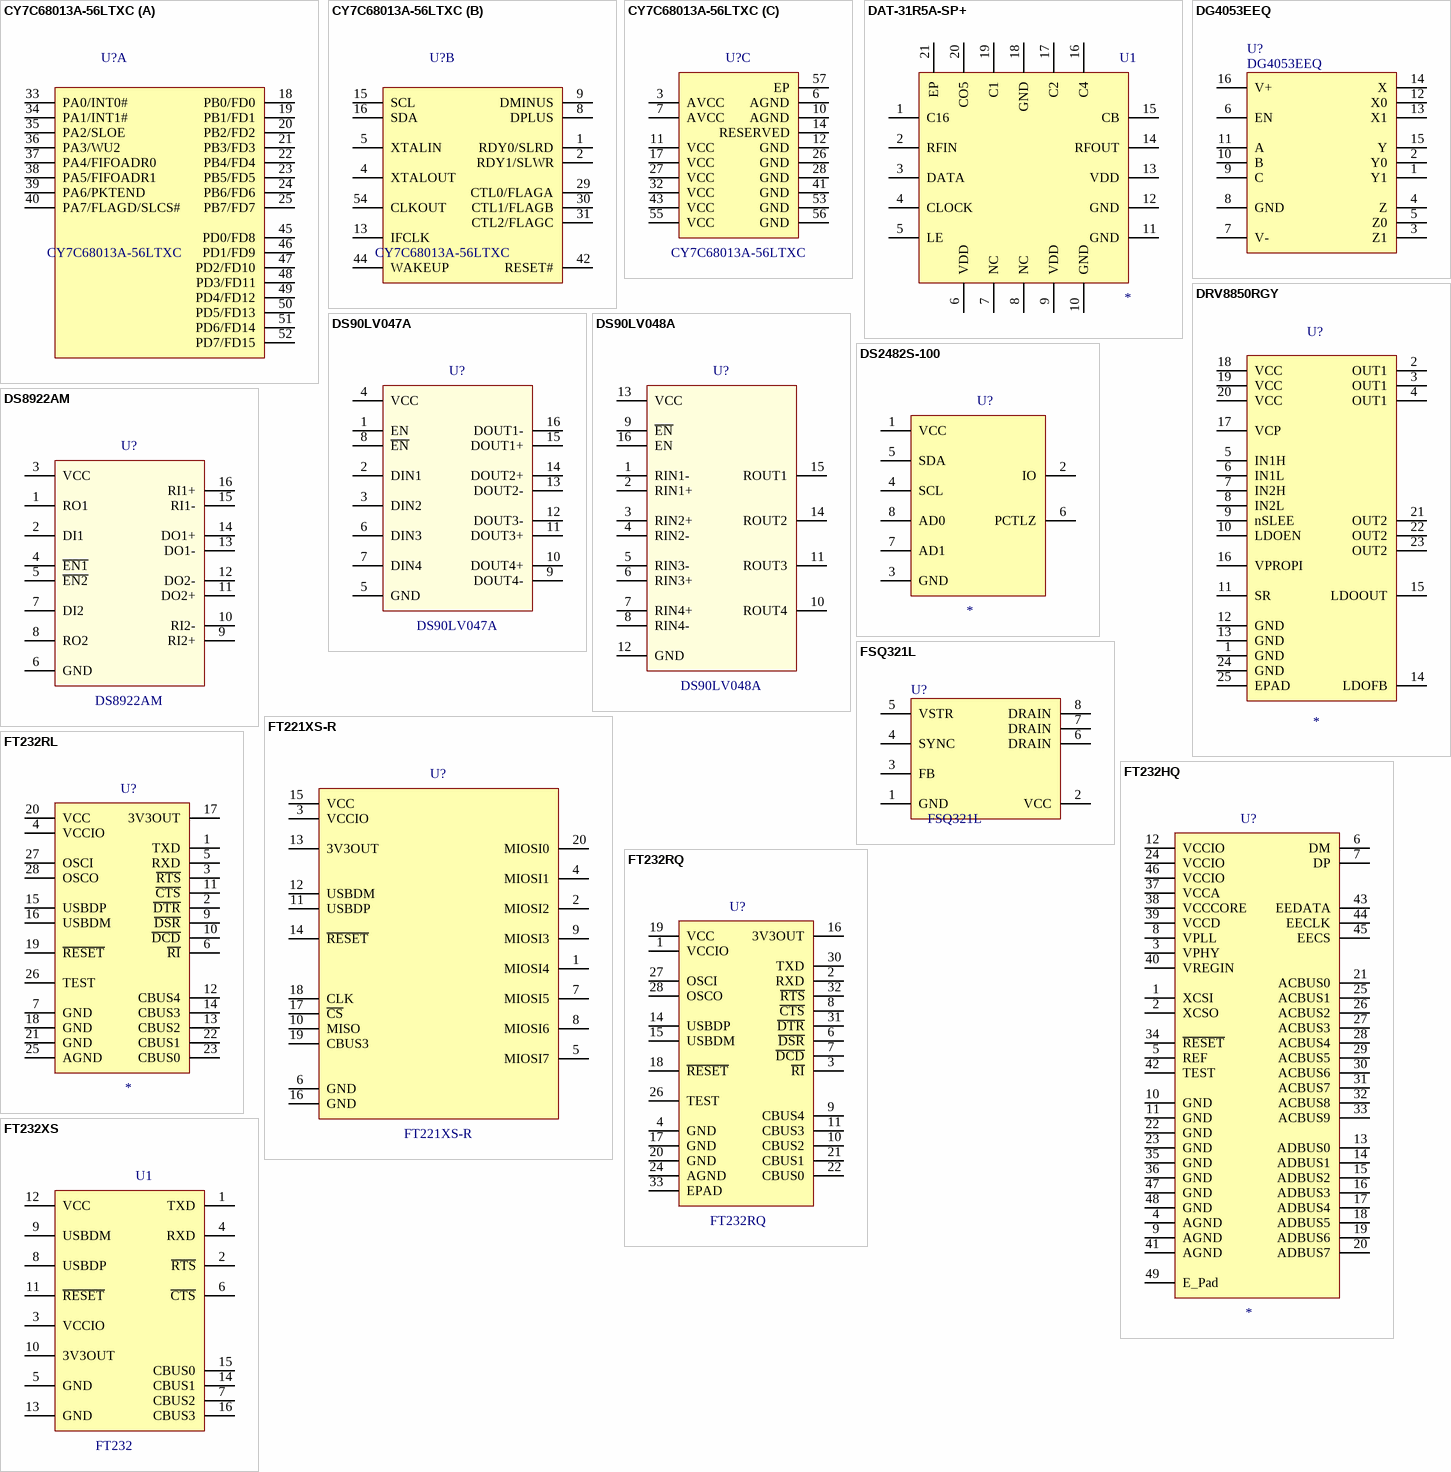
[diagram p2: symbols CY7C68013A-56LTXC to FT232XS]

## CY7C68013A-56LTXC
designator U?
EZ-USB® FX2LP™ USB Microcontroller   High-Speed USB Peripheral Controller; Manufacturer: Cypress Semiconductor; Value: CY7C68013A-56LTXC; Mouser No: 727-CY7C68013A56LTXC
footprint QFN56 P0.5 T5.2X4.5 C8.0X8.0H1.0 (QFN, 56-Leads, Body 8.0x8.0mm, Pitch 0.5mm, Thermal Pad 5.2x4.5mm, IPC Medium Density)
part A pins: 18 PB0/FD0, 19 PB1/FD1, 20 PB2/FD2, 21 PB3/FD3, 22 PB4/FD4, 23 PB5/FD5, 24 PB6/FD6, 25 PB7/FD7, 33 PA0/INT0#, 34 PA1/INT1#, 35 PA2/SLOE, 36 PA3/WU2, 37 PA4/FIFOADR0, 38 PA5/FIFOADR1, 39 PA6/PKTEND, 40 PA7/FLAGD/SLCS#, 45 PD0/FD8, 46 PD1/FD9, 47 PD2/FD10, 48 PD3/FD11, 49 PD4/FD12, 50 PD5/FD13, 51 PD6/FD14, 52 PD7/FD15
part B pins: 1 RDY0/SLRD, 2 RDY1/SLWR, 4 XTALOUT "Crystal Output. Connect this signal to a 24 MHz parallel-resonant, fundamental mode crystal and load capacitor to GND.If an external clock is used to drive XTALIN, leave this pin open.", 5 XTALIN "Crystal Input. Connect this signal to a 24 MHz parallel-resonant, fundamental mode crystal and load capacitor to GND. It is also correct to drive XTALIN with an external 24-MHz square wave derived from another clock source. (See Datasheet)", 8 DPLUS "USB D+ Signal. Connect to the USB D+ signal", 9 DMINUS "USB D- Signal. Connect to the USB D- signal.", 13 IFCLK "Interface Clock, used for synchronously clocking data into or out of the slave FIFOs. IFCLK also serves as a timing reference for all slave FIFO control signals and GPIF. When internal clocking is used (IFCONFIG.7 = 1) the (See Datasheet)", 15 SCL "Clock for the I2C interface. Connect to VCC with a 2.2K resistor, even if no I2C peripheral is attached.", 16 SDA "Data for I2C compatible interface. Connect to VCC with a 2.2K resistor, even if no I2C compatible peripheral is attached.", 29 CTL0/FLAGA, 30 CTL1/FLAGB, 31 CTL2/FLAGC, 42 RESET# "Active LOW Reset. Resets the entire chip. See section 2.9 ”Reset and Wakeup” on page 8 for more details.", 44 WAKEUP, 54 CLKOUT "12-, 24- or 48 MHz clock, phase locked to the 24 MHz input clock. The 8051 defaults to 12 MHz operation. The 8051 may three-state this output by setting CPUCS.1 = 1."
part C pins: 3 AVCC "Analog VCC. Connect this pin to 3.3V power source. This signal provides power to the analog section of the chip.", 6 AGND "Analog Ground. Connect to ground with as short a path as possible.", 7 AVCC "Analog VCC. Connect this pin to 3.3V power source. This signal provides power to the analog section of the chip.", 10 AGND "Analog Ground. Connect to ground with as short a path as possible.", 11 VCC "VCC. Connect to 3.3 V power source.", 12 GND "Ground.", 14 RESERVED "Reserved. Connect to ground.", 17 VCC "VCC. Connect to 3.3 V power source.", 26 GND "Ground.", 27 VCC "VCC. Connect to 3.3 V power source.", 28 GND "Ground.", 32 VCC "VCC. Connect to 3.3 V power source.", 41 GND "Ground.", 43 VCC "VCC. Connect to 3.3 V power source.", 53 GND "Ground.", 55 VCC "VCC. Connect to 3.3 V power source.", 56 GND "Ground.", 57 EP

## DAT-31R5A-SP+
designator U1
Digital Step Attenuator; Value: *
footprint QFN20 P0.5 T2.05x2.05 C4.0x4.0 H0.85 (QFN20 P0.5 T2.05x2.0 C4.0x4.0 H0.85)
pins: 1 C16, 2 RFIN, 3 DATA, 4 CLOCK, 5 LE, 6 VDD, 7 NC, 8 NC, 9 VDD, 10 GND, 11 GND, 12 GND, 13 VDD, 14 RFOUT, 15 CB, 16 C4, 17 C2, 18 GND, 19 C1, 20 CO5, 21 EP

## DG4053EEQ
designator U?
8-Channel, Triple SPDT; Value: DG4053EEQ
footprint TSSOP16 P0.65 C5.0x4.5 H1.1 (TSSOP-16 NXP)
pins: 1 Y1, 2 Y0, 3 Z1, 4 Z, 5 Z0, 6 EN, 7 V-, 8 GND, 9 C, 10 B, 11 A, 12 X0, 13 X1, 14 X, 15 Y, 16 V+

## DRV8850RGY
designator U?
Low Voltage H-Bridge IC With LDO Voltage Regulator; Value: DRV8850RGY
footprint DRV8850RGY (VQFN 24, P0.5 C5.6x3.6, T4.0x2.2, H1.0)
pins: 1 GND, 2 OUT1, 3 OUT1, 4 OUT1, 5 IN1H, 6 IN1L, 7 IN2H, 8 IN2L, 9 nSLEE, 10 LDOEN, 11 SR, 12 GND, 13 GND, 14 LDOFB, 15 LDOOUT, 16 VPROPI, 17 VCP, 18 VCC, 19 VCC, 20 VCC, 21 OUT2, 22 OUT2, 23 OUT2, 24 GND, 25 EPAD

## DS90LV047A
designator U?
DS90LV047A 3-V LVDS Quad CMOS Differential Line Driver; Value: DS90LV047A
footprint TSSOP16 P0.65 C5.0x4.5 H1.1 (TSSOP-16 NXP)
footprint SO16 P1.27 C4.0x10.2 H1.75 (SOIC, 16-Leads, Body 4.0x10.20mm, Pitch 1.27mm, IPC Medium Density)
pins: 1 EN, 2 DIN1, 3 DIN2, 4 VCC, 5 GND, 6 DIN3, 7 DIN4, 8 ~{EN}, 9 DOUT4-, 10 DOUT4+, 11 DOUT3+, 12 DOUT3-, 13 DOUT2-, 14 DOUT2+, 15 DOUT1+, 16 DOUT1-

## DS90LV048A
designator U?
DS90LV048A 3-V LVDS Quad CMOS Differential Line Receiver; Value: DS90LV048A
footprint TSSOP16 P0.65 C5.0x4.5 H1.1 (TSSOP-16 NXP)
footprint SO16 P1.27 C4.0x10.2 H1.75 (Footprint not found)
pins: 1 RIN1- "Most Positive Power Supply Potential.", 2 RIN1+ "Source Terminal. Can be an input or output.", 3 RIN2+ "Drain Terminal. Can be an input or output.", 4 RIN2- "Source Terminal. Can be an input or output.", 5 RIN3- "Source Terminal. Can be an input or output.", 6 RIN3+ "Drain Terminal. Can be an input or output.", 7 RIN4+ "Source Terminal. Can be an input or output.", 8 RIN4- "Logic Control Input.", 9 ~{EN} "Logic Control Input.", 10 ROUT4 "Source Terminal. Can be an input or output.", 11 ROUT3 "Drain Terminal. Can be an input or output.", 12 GND "Source Terminal. Can be an input or output.", 13 VCC "Source Terminal. Can be an input or output.", 14 ROUT2 "Drain Terminal. Can be an input or output.", 15 ROUT1 "Source Terminal. Can be an input or output.", 16 EN "Ground (0 V) Reference."

## DS2482S-100
designator U?
Single-Channel 1-Wire Master; Value: *
footprint SO8 P1.27 C4.0X5.0 H1.75 (8-Pin Small Outline Integrated Circuit 1.27 mm Pitch, IPC Medium Density)
pins: 1 VCC, 2 IO, 3 GND, 4 SCL, 5 SDA, 6 PCTLZ, 7 AD1, 8 AD0

## DS8922AM
designator U?
RS-422 Dual Differential Line Driver and Receiver Pairs; Manufacturer: Texas Instruments; Value: DS8922AM; Mouser No.: *
footprint SO16 P1.27 C4.0x10.2 H1.75 (SOIC, 16-Leads, Body 4.0x10.20mm, Pitch 1.27mm, IPC Medium Density)
pins: 1 RO1 "Source Terminal. Can be an input or output.", 2 DI1 "Drain Terminal. Can be an input or output.", 3 VCC "Source Terminal. Can be an input or output.", 4 ~{EN1} "Logic Control Input.", 5 ~{EN2} "Ground (0 V) Reference.", 6 GND "Source Terminal. Can be an input or output.", 7 DI2 "Drain Terminal. Can be an input or output.", 8 RO2 "Source Terminal. Can be an input or output.", 9 RI2+ "Logic Control Input.", 10 RI2- "Source Terminal. Can be an input or output.", 11 DO2+ "Drain Terminal. Can be an input or output.", 12 DO2- "Source Terminal. Can be an input or output.", 13 DO1- "Source Terminal. Can be an input or output.", 14 DO1+ "Drain Terminal. Can be an input or output.", 15 RI1- "Most Positive Power Supply Potential.", 16 RI1+ "Source Terminal. Can be an input or output."

## FSQ321L
designator U?
Green Mode Fairchild Power Switch; Value: FSQ321L; Manufacturer: Fairchild; Mouser No.: 512-FSQ321L
footprint SO8L P2.54 C6.6X9.7 H5.0 (SOPL, 8-Leads, Body 6.6x9.7mm, Pitch 2.54mm, IPC High Density)
pins: 1 GND "Supply voltage", 2 VCC "Ground", 3 FB "No connection", 4 SYNC "Receiver output", 5 VSTR "Driver input", 6 DRAIN "Low bus output", 7 DRAIN "High bus outpu", 8 DRAIN "No connection"

## FT221XS-R
designator U?
FT221X USB 8-BIT SPI/FT1248 IC; Manufacturer: FTDI CHip; Value: FT221XS-R; Mouser No: 895-FT221XS-R
footprint SSOP20 P0.65 C5.4X7.5 H2.0 (SSOP, 20-Leads, Body 5.40X7.50mm, Pitch 0.65mm, IPC Medium Density)
pins: 1 MIOSI4, 2 MIOSI2, 3 VCCIO, 4 MIOSI1, 5 MIOSI7, 6 GND, 7 MIOSI5, 8 MIOSI6, 9 MIOSI3, 10 MISO, 11 USBDP, 12 USBDM, 13 3V3OUT, 14 ~{RESET}, 15 VCC, 16 GND, 17 ~{CS}, 18 CLK, 19 CBUS3, 20 MIOSI0

## FT232HQ
designator U?
Single Channel Hi-Speed USB to Multipurpose UART/FIFO IC; Value: *
footprint QFN48 P0.5 T6.3X6.3 C8.0X8.0 H1.0 (QFN48 Pitch0.5 Thermal6.3X6.3 Case8.0X8.0 Height1.0 Manufacturer FTDI)
pins: 1 XCSI, 2 XCSO, 3 VPHY, 4 AGND, 5 REF, 6 DM, 7 DP, 8 VPLL, 9 AGND, 10 GND, 11 GND, 12 VCCIO, 13 ADBUS0, 14 ADBUS1, 15 ADBUS2, 16 ADBUS3, 17 ADBUS4, 18 ADBUS5, 19 ADBUS6, 20 ADBUS7, 21 ACBUS0, 22 GND, 23 GND, 24 VCCIO, 25 ACBUS1, 26 ACBUS2, 27 ACBUS3, 28 ACBUS4, 29 ACBUS5, 30 ACBUS6, 31 ACBUS7, 32 ACBUS8, 33 ACBUS9, 34 ~{RESET}, 35 GND, 36 GND, 37 VCCA, 38 VCCCORE, 39 VCCD, 40 VREGIN, 41 AGND, 42 TEST, 43 EEDATA, 44 EECLK, 45 EECS, 46 VCCIO, 47 GND, 48 GND, 49 E_Pad

## FT232RL
designator U?
USB to serial UART interface; Value: *
footprint SSOP28 P0.65 C5.4X10.4 H2.0 (SOP, 28-Leads, Body 10.40x5.40mm, Pitch 0.65mm, IPC Medium Density)
pins: 1 TXD, 2 ~{DTR}, 3 ~{RTS}, 4 VCCIO, 5 RXD, 6 ~{RI}, 7 GND, 8 hidden, 9 ~{DSR}, 10 ~{DCD}, 11 ~{CTS}, 12 CBUS4, 13 CBUS2, 14 CBUS3, 15 USBDP, 16 USBDM, 17 3V3OUT, 18 GND, 19 ~{RESET}, 20 VCC, 21 GND, 22 CBUS1, 23 CBUS0, 24 hidden, 25 AGND, 26 TEST, 27 OSCI, 28 OSCO

## FT232RQ
designator U?
24-Bit ADC with Ultra Low Noise PGIA - Crystal; Value: FT232RQ
footprint QFN32 P0.5 T3.2x3.2 C5.0X5.0 H1.0 (QFN32 Pitch 0.5mm, Thermal pad 3.2x3.2mm, Body 5X5mm, Heigh .0mm)
pins: 1 VCCIO, 2 RXD, 3 ~{RI}, 4 GND, 5 hidden, 6 ~{DSR}, 7 ~{DCD}, 8 ~{CTS}, 9 CBUS4, 10 CBUS2, 11 CBUS3, 12 hidden, 13 hidden, 14 USBDP, 15 USBDM, 16 3V3OUT, 17 GND, 18 ~{RESET}, 19 VCC, 20 GND, 21 CBUS1, 22 CBUS0, 23 hidden, 24 AGND, 25 hidden, 26 TEST, 27 OSCI, 28 OSCO, 29 hidden, 30 TXD, 31 ~{DTR}, 32 ~{RTS}, 33 EPAD

## FT232XS
designator U1, comment FT232
USB to serial UART interface; Value: FT232
footprint SSOP16 P0.635 C5.0x4.0 H1.8 (SSOP16 FTDI)
pins: 1 TXD, 2 ~{RTS}, 3 VCCIO, 4 RXD, 5 GND, 6 ~{CTS}, 7 CBUS2, 8 USBDP, 9 USBDM, 10 3V3OUT, 11 ~{RESET}, 12 VCC, 13 GND, 14 CBUS1, 15 CBUS0, 16 CBUS3

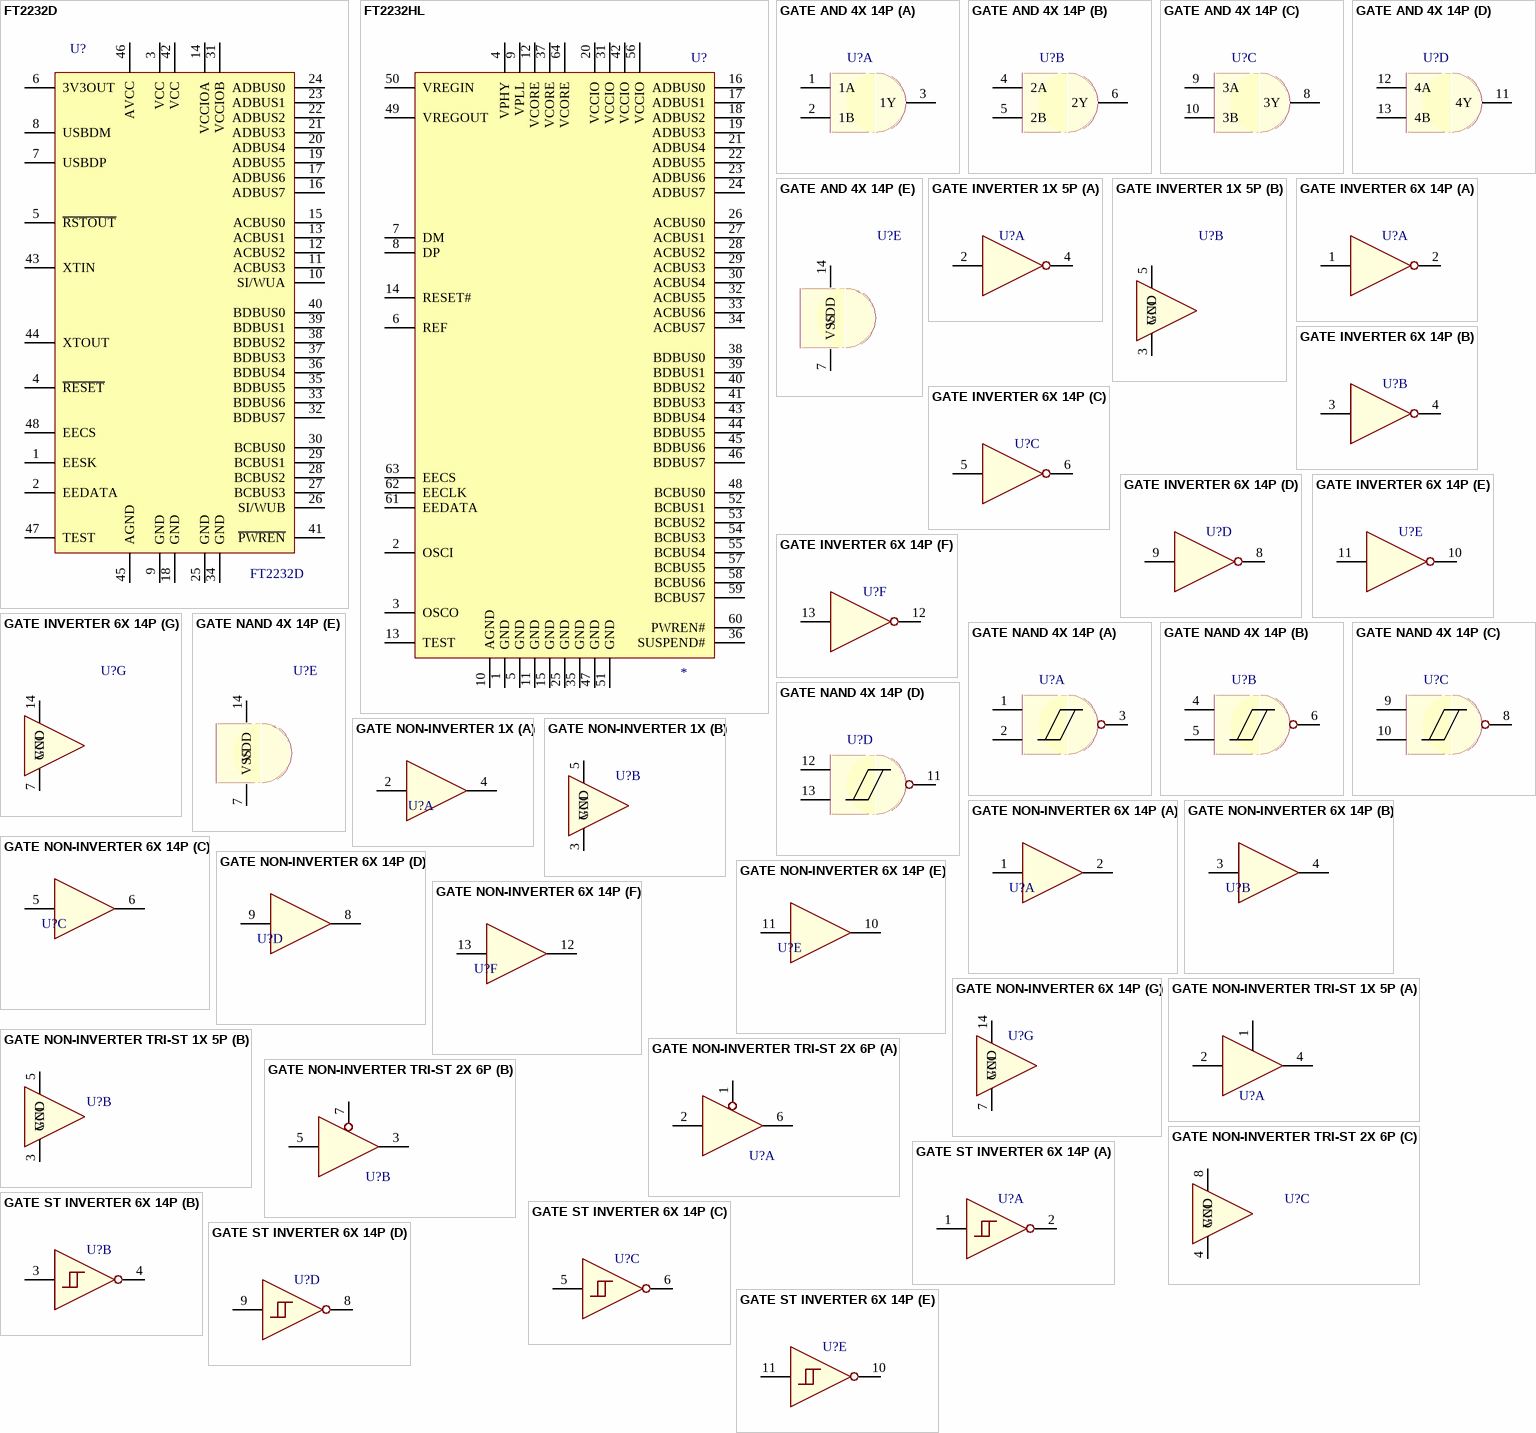
[diagram p3: symbols FT2232D to GATE ST INVERTER 6X 14P]

## FT2232D
designator U?
Dual USB to serial UART or  FIFO interface; Value: FT2232D
footprint LQFP48 P0.5 C7.0X7.0 H1.6 (TSQFP, 48-Leads, Body 7.00x7.00mm, Pitch 0.50mm, IPC Medium Density)
pins: 1 EESK, 2 EEDATA, 3 VCC, 4 ~{RESET}, 5 ~{RSTOUT}, 6 3V3OUT, 7 USBDP, 8 USBDM, 9 GND, 10 SI/WUA, 11 ACBUS3, 12 ACBUS2, 13 ACBUS1, 14 VCCIOA, 15 ACBUS0, 16 ADBUS7, 17 ADBUS6, 18 GND, 19 ADBUS5, 20 ADBUS4, 21 ADBUS3, 22 ADBUS2, 23 ADBUS1, 24 ADBUS0, 25 GND, 26 SI/WUB, 27 BCBUS3, 28 BCBUS2, 29 BCBUS1, 30 BCBUS0, 31 VCCIOB, 32 BDBUS7, 33 BDBUS6, 34 GND, 35 BDBUS5, 36 BDBUS4, 37 BDBUS3, 38 BDBUS2, 39 BDBUS1, 40 BDBUS0, 41 ~{PWREN}, 42 VCC, 43 XTIN, 44 XTOUT, 45 AGND, 46 AVCC, 47 TEST, 48 EECS

## FT2232HL
designator U?
Dual High Speed  USB to Multipurpose  UART/FIFO IC; Value: *
footprint LQFP64 P0.5 C10.0x10.0 H1.6 (Thin QFP, 64-Leads, Body 10x10mm, Pitch 0.5mm, IPC Medium Density)
pins: 1 GND, 2 OSCI, 3 OSCO, 4 VPHY, 5 GND, 6 REF, 7 DM, 8 DP, 9 VPLL, 10 AGND, 11 GND, 12 VCORE, 13 TEST, 14 RESET#, 15 GND, 16 ADBUS0, 17 ADBUS1, 18 ADBUS2, 19 ADBUS3, 20 VCCIO, 21 ADBUS4, 22 ADBUS5, 23 ADBUS6, 24 ADBUS7, 25 GND, 26 ACBUS0, 27 ACBUS1, 28 ACBUS2, 29 ACBUS3, 30 ACBUS4, 31 VCCIO, 32 ACBUS5, 33 ACBUS6, 34 ACBUS7, 35 GND, 36 SUSPEND#, 37 VCORE, 38 BDBUS0, 39 BDBUS1, 40 BDBUS2, 41 BDBUS3, 42 VCCIO, 43 BDBUS4, 44 BDBUS5, 45 BDBUS6, 46 BDBUS7, 47 GND, 48 BCBUS0, 49 VREGOUT, 50 VREGIN, 51 GND, 52 BCBUS1, 53 BCBUS2, 54 BCBUS3, 55 BCBUS4, 56 VCCIO, 57 BCBUS5, 58 BCBUS6, 59 BCBUS7, 60 PWREN#, 61 EEDATA, 62 EECLK, 63 EECS, 64 VCORE

## GATE AND 4X 14P
designator U?
GATE AND 4X 14P
footprint DIP14 P2.54 W7.62 H5.0 (14-Pin Dual in Line Integrated Circuit 2.54 Pitch, 7.62 Width, Case 20x6mm)
footprint SO14 P1.27 C4.0X8.8 H1.75 (SOIC, 14-Leads, Body 4.0X8.8mm, Pitch 1.27mm, IPC Medium Density)
part A pins: 1 1A, 2 1B, 3 1Y
part B pins: 4 2A, 5 2B, 6 2Y
part C pins: 8 3Y, 9 3A, 10 3B
part D pins: 11 4Y, 12 4A, 13 4B
part E pins: 7 VSS, 14 VDD